# Altium schematic symbol library LQ2304BLDCV2.SCHLIB: 22 symbols
Pins are listed as number, name and electrical type; pins without a type are passive.

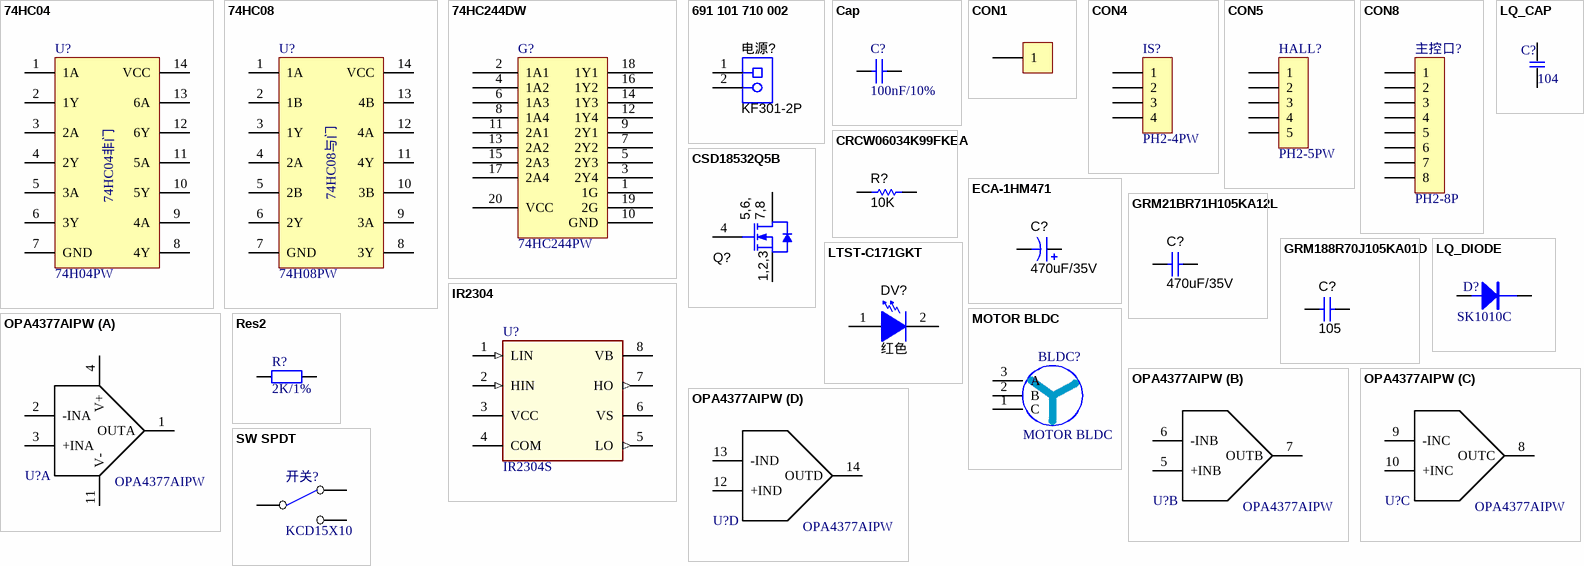
[diagram p0: symbols 74HC04 to SW SPDT]

## 74HC04
designator U?, comment 74H04PW
74HC00
footprint LQ_TSSOP14-OPA4377AIPW
pins: 1 1A, 2 1Y, 3 2A, 4 2Y, 5 3A, 6 3Y, 7 GND, 8 4Y, 9 4A, 10 5Y, 11 5A, 12 6Y, 13 6A, 14 VCC
text: 74HC04非门

## 74HC08
designator U?, comment 74H08PW
74HC08
footprint LQ_TSSOP14-OPA4377AIPW
pins: 1 1A, 2 1B, 3 1Y, 4 2A, 5 2B, 6 2Y, 7 GND, 8 3Y, 9 3A, 10 3B, 11 4Y, 12 4A, 13 4B, 14 VCC
text: 74HC08与门

## 74HC244DW
designator G?, comment 74HC244PW
footprint LQ_TSSOP20
footprint LQ_TSSOP20S
pins: 1 1G, 2 1A1, 3 2Y4, 4 1A2, 5 2Y3, 6 1A3, 7 2Y2, 8 1A4, 9 2Y1, 10 GND, 11 2A1, 12 1Y4, 13 2A2, 14 1Y3, 15 2A3, 16 1Y2, 17 2A4, 18 1Y1, 19 2G, 20 VCC

## 691 101 710 002
designator 电源?, comment KF301-2P
PartNumber: 691 101 710 002; Manufacturer: Wurth Elektronik eiSos; SymbolCreator: a0412235; CompType: Terminal Block; U/M: EA; SymbolVersion: 2013-09-04; PackageReference: Terminal Block, 5 mm, 2x1, TH; RoHS: Y; MountType: TH; ComponentLink1Description: Datasheet Link; ComponentLink1URL: http://katalog.we-online.de/em/datasheet/6911017100xx.pdf; Publisher: Texas Instruments; LatestRevisionDate: 2015-02-03; Supplier 1: Digi-Key; Supplier Part Number 1: 732-2026-ND; Supplier 2: Mouser; Supplier Part Number 2: 710-691101710002
footprint Wurth_691101710002
footprint LQ_PIN2
pins: 1, 2

## Cap
designator C?, comment 100nF/10%
Capacitor; Value: 2.2nF; Published: 8-Jun-2000; LatestRevisionDate: 17-Jul-2002; LatestRevisionNote: Re-released for DXP Platform.; PackageReference: RAD-0.3; Publisher: Altium Limited; PackageDescription: Radial Cap, Thru-Hole; 2 Leads; 0.3 in Pin Spacing
footprint RAD-0.3 (Radial Cap, Thru-Hole; 2 Leads; 0.3 in Pin Spacing)
simulation model CAP (Capacitor)
signal-integrity model Cap
footprint Model Name (Footprint not found)
footprint 0603
footprint LQ_0603
footprint 0603
footprint LQ_C0402
pins: 1, 2

## CON1
designator GND?  (value not drawn)
Connector
footprint LQ_GND
pins: 1

## CON4
designator IS?, comment PH2-4PW
Connector
footprint LQ_PH2.0-WI-4P (长：9.9mm，宽：6mm，高：4.7mm)
pins: 1, 2, 3, 4

## CON5
designator HALL?, comment PH2-5PW
Connector
footprint LQ_PH2.0-WI-5P (长：13.9mm，宽：6mm，高：4.7mm)
pins: 1, 2, 3, 4, 5

## CON8
designator 主控口?, comment PH2-8P
Connector
footprint LQ_PH2-8PW
pins: 1, 2, 3, 4, 5, 6, 7, 8

## CRCW06034K99FKEA
designator R?, comment 10K
PartNumber: CRCW06034K99FKEA; Manufacturer: Vishay-Dale; CompType: Resistor; Res_ohm: 4990; Value_Code: 4k99; Tolerance_%: 1; Value1: 1%; Power_W: 0.1; Value2: 0.1W; VDC_V: 75; TempCo: 100 ppm/C; EIA_Code: E96; U/M: EA; SymbolVersion: 2009-05-29; Value: 10K; PackageReference: 0603; RoHS: Y; MountType: SMT; Technology: Thick Film; Published: 2008-06-26; Publisher: Texas Instruments; LatestRevisionDate: 2013-10-22; ComponentLink1Description: Datasheet link; ComponentLink1URL: http://www.vishay.com/docs/20035/dcrcwe3.pdf; Supplier 1: Digi-Key; Supplier Part Number 1: 541-4.99KHCT-ND; Supplier 2: Mouser; Supplier Part Number 2: 71-CRCW0603-4.99K-E3; Supplier 3: Farnell; Supplier Part Number 3: 1652885
signal-integrity model Resistor
simulation model Resistor
footprint 0603
footprint 0603M
footprint 0603L
footprint 0603_HV
footprint LQ_R0603
pins: 1, 2

## CSD18532Q5B
designator Q?, comment TPH1R403NL/CSD18532Q5B  (value not drawn)
Manufacturer: Texas Instruments; Alternate Manufacturer: None; CompType: MOSFET; U/M: EA; ChType: N; Value: 60V; VdsMax_V: 60; Value1: 3.3 ohm; Rdson45_Ohm: 3.3; Value2: 27 nC; QgTyp_nC: 27; Vgs_V: 1.6; IdsMax_A: 172; SymbolVersion: 2008-07-09; PartNumber: CSD18532Q5B; PackageReference: SON 5x6mm; RoHS: Y; MountType: SMT; Published: 2008-06-19; Publisher: Texas Instruments; LatestRevisionDate: 2014-05-23; LatestRevisionNote: Added parts.; ComponentLink1Description: Datasheet link; ComponentLink1URL: http://www.ti.com/lit/gpn/csd18532q5b; Supplier 1: Digi-Key; Supplier Part Number 1: 296-35628-1-ND; Supplier 2: Mouser; Supplier Part Number 2: 595-CSD18532Q5B; Supplier 3: Newark; Supplier Part Number 3: 63W5308
footprint TRANS_NexFET_Q5B
footprint LQ_SON5X6 (TI recommended land pattern (nominal) November 2012)
pins: 1 S, 2 S, 3 S, 4 G, 5 D, 6 D, 7 D, 8 D
text: 5,6,; 7,8; 1,2,3

## ECA-1HM471
designator C?, comment 470uF/35V
PartNumber: ECA-1HM471; Manufacturer: Panasonic; Polarized: Y; CompType: Capacitor; Value: 470uF; ValueDisplayed: 330µF/35V; U/M: EA; Cap_F: 0.00047; Tolerance_%: 20; Value1: Unknown; VDC_V: 50; Value2: 50V; IRMS_A: 0.65; TaMin_C: -40; TaMax_C: 85; Cap_Case: 10x20mm; SymbolVersion: 2008-07-09; PackageReference: D10xL20mm; RoHS: Y; MountType: TH; Technology: AL; Series: M; Publisher: Texas Instruments; LatestRevisionDate: 2015-02-10; ComponentLink1Description: Datasheet link; ComponentLink1URL: http://industrial.panasonic.com/www-data/pdf/ABA0000/ABA0000CE12.pdf; Supplier 1: Digi-Key; Supplier Part Number 1: P5185-ND; Supplier 2: Mouser; Supplier Part Number 2: 667-ECA-1HM471; Supplier 3: Farnell; Supplier Part Number 3: 9693815
signal-integrity model Cap
simulation model Cap
footprint M_1000x2000
footprint LQ_C1210
pins: 1 +, 2 -

## GRM21BR71H105KA12L
designator C?, comment 470uF/35V
PartNumber: GRM21BR71H105KA12L; Manufacturer: MuRata; Polarized: N; CompType: Capacitor; Value: 1uF; ValueDisplayed: 1µF; U/M: EA; Cap_F: 0.000001; Tolerance_%: 10; Value1: Unknown; VDC_V: 50; Value2: 50V; TempCo: X7R; TaMin_C: -55; TaMax_C: 125; Cap_Case: 0805; SymbolVersion: 2008-07-09; PackageReference: 0805; RoHS: Y; MountType: SMT; Technology: Ceramic; Published: 2008-06-19; Publisher: Texas Instruments; LatestRevisionDate: 2013-09-06; ComponentLink1Description: Datasheet link; ComponentLink1URL: http://search.murata.co.jp/Ceramy/PnsearchViewAction.do?HnOFG=ON&HnNFG=ON&SEL_CNT=50&sLang=en&sKey=GRM21BR71H105KA12L&x=9&y=9&search=startwith; Supplier 1: Digi-Key; Supplier Part Number 1: 490-4736-1-ND; Supplier 2: Mouser; Supplier Part Number 2: 81-GRM21BR71H105KA2L; Supplier 3: Farnell; Supplier Part Number 3: 1735541
signal-integrity model Cap
simulation model Cap
footprint 0805_HV
footprint 0805
footprint 0805M
footprint 0805L
footprint LQ_C1210
pins: 1, 2

## GRM188R70J105KA01D
designator C?, comment 105
PartNumber: GRM188R70J105KA01D; Manufacturer: MuRata; Polarized: N; CompType: Capacitor; Value: 1uF; ValueDisplayed: 1µF; U/M: EA; Cap_F: 0.000001; Tolerance_%: 10; Value1: Unknown; VDC_V: 6.3; Value2: 6.3V; TempCo: X7R; TaMin_C: -55; TaMax_C: 125; Cap_Case: 0603; SymbolVersion: 2008-07-09; PackageReference: 0603; RoHS: Y; MountType: SMT; Technology: Ceramic; Published: 2008-06-19; Publisher: Texas Instruments; LatestRevisionDate: 2014-05-28; ComponentLink1Description: Datasheet link; ComponentLink1URL: http://search.murata.co.jp/Ceramy/PnsearchViewAction.do?HnOFG=ON&HnNFG=ON&SEL_CNT=50&sLang=en&sKey=GRM188R70J105KA01D&x=9&y=9&search=startwith; Supplier 1: Digi-Key; Supplier Part Number 1: 490-3898-1-ND; Supplier 2: Mouser; Supplier Part Number 2: 81-GRM188R70J105KA01; Supplier 3: Farnell; Supplier Part Number 3: 1845765
signal-integrity model Cap
simulation model Cap
footprint 0603
footprint 0603M
footprint 0603L
footprint 0603_HV
footprint 0603S
footprint LQ_C0603
pins: 1, 2

## IR2304
designator U?, comment IR2304S
Half Bridge Driver; Manufacturer Order Number: IR2304; Manufacturer: Infineon Technologies; PackageReference: PG-DIP-8-905
footprint SO-8
pins: 1 LIN (in) "Logic input for low side gate driver output", 2 HIN (in) "Logic input for high side gate driver output", 3 VCC (power) "Low side supply voltage", 4 COM (power) "Logic ground and low side driver return", 5 LO (out) "Low side driver output", 6 VS (power) "High voltage floating supply return", 7 HO (out) "High side driver output", 8 VB (power) "High side floating supply"

## LQ_CAP
designator C?, comment 104
CAP
footprint LQ_0805
footprint LQ_C0402
footprint LQ_1206
footprint LQ_1210
pins: 1, 2

## LQ_DIODE
designator D?, comment SK1010C
footprint LQ_DSMC-DO-214AB
footprint LQ_1206
footprint LQ_1210
footprint LQ_1812
pins: 1, 2

## LTST-C171GKT
designator DV?, comment 红色
Manufacturer: Lite-On; PartNumber: LTST-C171GKT; CompType: LED; Value: Green; Vf_V: 2.1; Value2: 2.1V; Io_A: 20; Value1: W; U/M: EA; SymbolVersion: 2008-12-08; MountType: SMT; RoHS: Y; PackageReference: LED_0805; Type: AlInGaP; Color: green; Published: 2008-07-11; Publisher: Texas Instruments; ComponentLink1URL: https://sps06.itg.ti.com/sites/KMS/crossdivteams/altium/docs/ComponentDatasheets/LTST-C171GKT.pdf; ComponentLink1Description: Datasheet link; LatestRevisionDate: 2013-09-07; Supplier 1: Digi-Key; Supplier Part Number 1: 160-1423-1-ND; Supplier 2: Mouser; Supplier Part Number 2: 859-LTST-C171GKT
signal-integrity model Diode
footprint LED_LTST-C171
footprint LQ_LED0603R
pins: 1 A, 2 K

## MOTOR BLDC
designator BLDC?
footprint LQ_PIN3
pins: 1 C, 2 B, 3 A

## OPA4377AIPW
designator U?
footprint LQ_TSSOP14-OPA4377AIPW
part A pins: 1 OUTA, 2 -INA, 3 +INA, 4 V+, 11 V-
part B pins: 5 +INB, 6 -INB, 7 OUTB
part C pins: 8 OUTC, 9 -INC, 10 +INC
part D pins: 12 +IND, 13 -IND, 14 OUTD

## Res2
designator R?, comment 2K/1%
Resistor; Value: 4.7k; Published: 8-Jun-2000; LatestRevisionDate: 17-Jul-2002; LatestRevisionNote: Re-released for DXP Platform.; PackageReference: AXIAL-0.4; Publisher: Altium Limited; PackageDescription: Axial Device, Thru-Hole; 2 Leads; 0.4 in Pin Spacing
footprint AXIAL-0.4 (Axial Device, Thru-Hole; 2 Leads; 0.4 in Pin Spacing)
simulation model RESISTOR (Resistor)
signal-integrity model Res
footprint LQ_0603
footprint 0603
footprint LQ_R0402
pins: 1, 2

## SW SPDT
designator 开关?, comment KCD15X10
footprint LQ_KCD1-101 117S
pins: 1 COMMON, 2 NC, 3 NO